# EAGLE library part MCU_ATMEGA644P (library akita)
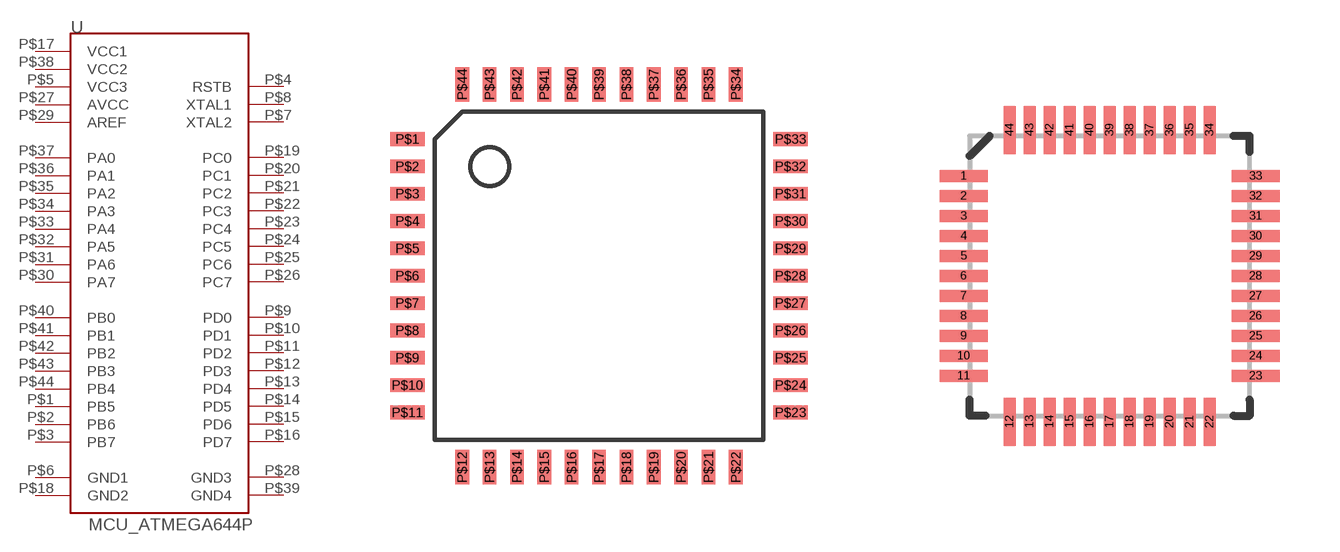
[diagram p62: symbol with the pads of TQFP44_08MM; footprints TQFP44_08MM, QFN-44-NOPAD]

Designator prefix -

## MCU_ATMEGA644P44A  [TQFP44_08MM]
P$1  PB5
P$2  PB6
P$3  PB7
P$4  RSTB
P$5  VCC3
P$6  GND1
P$7  XTAL2
P$8  XTAL1
P$9  PD0
P$10  PD1
P$11  PD2
P$12  PD3
P$13  PD4
P$14  PD5
P$15  PD6
P$16  PD7
P$17  VCC1
P$18  GND2
P$19  PC0
P$20  PC1
P$21  PC2
P$22  PC3
P$23  PC4
P$24  PC5
P$25  PC6
P$26  PC7
P$27  AVCC
P$28  GND3
P$29  AREF
P$30  PA7
P$31  PA6
P$32  PA5
P$33  PA4
P$34  PA3
P$35  PA2
P$36  PA1
P$37  PA0
P$38  VCC2
P$39  GND4
P$40  PB0
P$41  PB1
P$42  PB2
P$43  PB3
P$44  PB4

## MCU_ATMEGA644P44M1  [QFN-44-NOPAD]
1  PB5
2  PB6
3  PB7
4  RSTB
5  VCC1
6  GND1
7  XTAL1
8  XTAL2
9  PD0
10  PD1
11  PD2
12  PD3
13  PD4
14  PD5
15  PD6
16  PD7
17  VCC2
18  GND2
19  PC0
20  PC1
21  PC2
22  PC3
23  PC4
24  PC5
25  PC6
26  PC7
27  AVCC
28  GND3
29  AREF
30  PA7
31  PA6
32  PA5
33  PA4
34  PA3
35  PA2
36  PA1
37  PA0
38  VCC3
39  GND4
40  PB0
41  PB1
42  PB2
43  PB3
44  PB4

## Footprint TQFP44_08MM (pad centres in mm)
smd 1 x 0.4: P$1 -5.6,4; P$2 -5.6,3.2; P$3 -5.6,2.4; P$4 -5.6,1.6; P$5 -5.6,0.8; P$6 -5.6,0; P$7 -5.6,-0.8; P$8 -5.6,-1.6; P$9 -5.6,-2.4; P$10 -5.6,-3.2; P$11 -5.6,-4; P$23 5.6,-4; P$24 5.6,-3.2; P$25 5.6,-2.4; P$26 5.6,-1.6; P$27 5.6,-0.8; P$28 5.6,0; P$29 5.6,0.8; P$30 5.6,1.6; P$31 5.6,2.4; P$32 5.6,3.2; P$33 5.6,4
smd 0.4 x 1: P$12 -4,-5.6; P$13 -3.2,-5.6; P$14 -2.4,-5.6; P$15 -1.6,-5.6; P$16 -0.8,-5.6; P$17 0,-5.6; P$18 0.8,-5.6; P$19 1.6,-5.6; P$20 2.4,-5.6; P$21 3.2,-5.6; P$22 4,-5.6; P$34 4,5.6; P$35 3.2,5.6; P$36 2.4,5.6; P$37 1.6,5.6; P$38 0.8,5.6; P$39 0,5.6; P$40 -0.8,5.6; P$41 -1.6,5.6; P$42 -2.4,5.6; P$43 -3.2,5.6; P$44 -4,5.6

## Footprint QFN-44-NOPAD (pad centres in mm)
smd 1.2 x 0.3: 1 -3.65,2.5; 2 -3.65,2; 3 -3.65,1.5; 4 -3.65,1; 5 -3.65,0.5; 6 -3.65,0; 7 -3.65,-0.5; 8 -3.65,-1; 9 -3.65,-1.5; 10 -3.65,-2; 11 -3.65,-2.5; 23 3.65,-2.5; 24 3.65,-2; 25 3.65,-1.5; 26 3.65,-1; 27 3.65,-0.5; 28 3.65,0; 29 3.65,0.5; 30 3.65,1; 31 3.65,1.5; 32 3.65,2; 33 3.65,2.5
smd 0.3 x 1.2: 12 -2.5,-3.65; 13 -2,-3.65; 14 -1.5,-3.65; 15 -1,-3.65; 16 -0.5,-3.65; 17 0,-3.65; 18 0.5,-3.65; 19 1,-3.65; 20 1.5,-3.65; 21 2,-3.65; 22 2.5,-3.65; 34 2.5,3.65; 35 2,3.65; 36 1.5,3.65; 37 1,3.65; 38 0.5,3.65; 39 0,3.65; 40 -0.5,3.65; 41 -1,3.65; 42 -1.5,3.65; 43 -2,3.65; 44 -2.5,3.65